# EAGLE library part MAGIC-DONUT (library magic-donut)
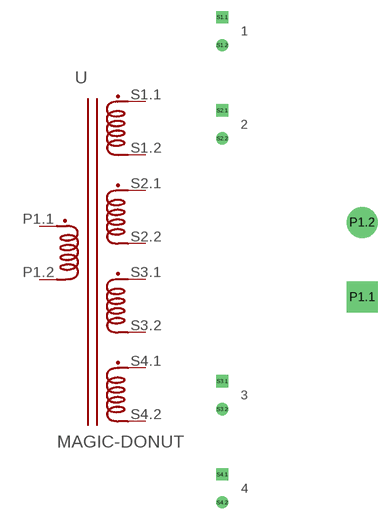
[diagram p0: symbol with the pads of TOROID; footprint TOROID]

Designator prefix -

## MAGIC-DONUT  [TOROID]
P1.1  P1.1  pas
P1.2  P1.2  pas
S1.1  S1.1  pas
S1.2  S1.2  pas
S2.1  S2.1  pas
S2.2  S2.2  pas
S3.1  S3.1  pas
S3.2  S3.2  pas
S4.1  S4.1  pas
S4.2  S4.2  pas

## Footprint TOROID (pad centres in mm)
drill 3.2 square: P1.1 19.05,-5.08
drill 3.2: P1.2 19.05,5.08
drill 1.1 square: S1.1 0,33.02; S2.1 0,20.32; S3.1 0,-16.51; S4.1 0,-29.21
drill 1.1: S1.2 0,29.21; S2.2 0,16.51; S3.2 0,-20.32; S4.2 0,-33.02